# Altium footprint library SOD_523_Package.PcbLib: 1 footprints
Each footprint in its own frame and in the unit in brackets; x right, y up, seen from the top. Pads: shape width x height; smd on the part's side, far side on the other; paste and mask are expansions set on the pad; w line width, h text height; cw(c..) or ccw(c..) is an arc to the next point about the centre after c.
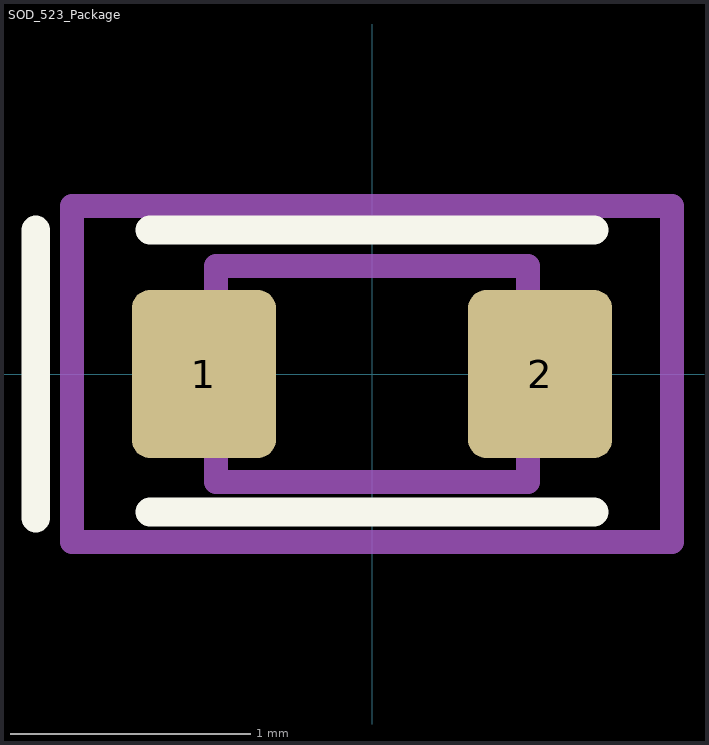
[diagram p0: the footprint, top view; thin cyan lines are the x and y axes]

## SOD_523_Package [mm]
pads (2):
  rrect25% 0.6x0.7 smd: 1(-0.7,0) 2(0.7,0)
Top Overlay:
  lines w0.12: -1.4,-0.6 -1.4,0.6 ; -0.925,-0.575 0.925,-0.575 ; -0.925,0.6 0.925,0.6
Mechanical 1:
  lines w0.1: -1.25,-0.7 1.25,-0.7 1.25,0.7 -1.25,0.7 -1.25,-0.7 ; -0.65,-0.45 -0.65,0.45 0.65,0.45 0.65,-0.45 -0.65,-0.45
  text ".Designator" at 0,0.094 h0.5
Mechanical 15:
  text "+" at -0.333,-0.475 h1
3D body "SOD-523.STEP": height 0.61, standoff 0, extent -0.913,-0.547 0.913,0.547